# Altium footprint library VCB20.PcbLib: 9 footprints
Each footprint in its own frame and in the unit in brackets; x right, y up, seen from the top. Pads: shape width x height; smd on the part's side, far side on the other; paste and mask are expansions set on the pad; w line width, h text height; cw(c..) or ccw(c..) is an arc to the next point about the centre after c.
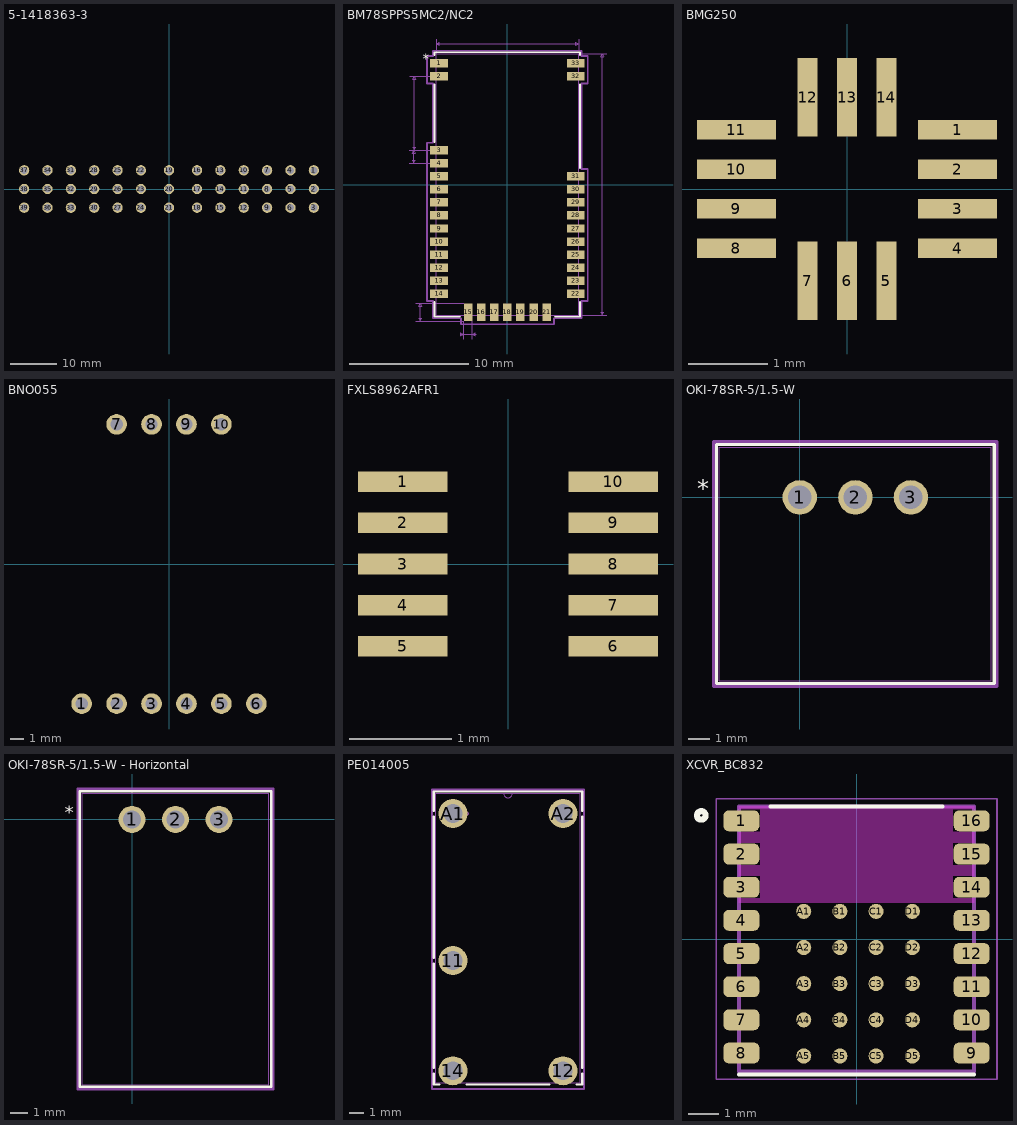
[diagram p0: the footprints below, top view; thin cyan lines are the x and y axes]

## 5-1418363-3 [mm] "Levyseal 90 degree 39 pin header"
pads (39):
  round 2.2 hole 1.5: 1(31,4) 2(31,0) 3(31,-4) 4(26,4) 5(26,0) 6(26,-4) 7(21,4) 8(21,0) 9(21,-4) 10(16,4) 11(16,0) 12(16,-4) 13(11,4) 14(11,0) 15(11,-4) 16(6,4) 17(6,0) 18(6,-4) 19(0,4) 20(0,0) 21(0,-4) 22(-6,4) 23(-6,0) 24(-6,-4) 25(-11,4) 26(-11,0) 27(-11,-4) 28(-16,4) 29(-16,0) 30(-16,-4) 31(-21,4) 32(-21,0) 33(-21,-4) 34(-26,4) 35(-26,0) 36(-26,-4) 37(-31,4) 38(-31,0) 39(-31,-4)
via -51.5,-4 diameter 4 hole 3.5
via 51.5,-4 diameter 4 hole 3.5
via -45,-4 diameter 3.5 hole 3
via 45,-4 diameter 3.5 hole 3
3D body "c-5-1418363-3-c-3d.stp": height 37, standoff -11, extent -66,-47.4 66,10.4

## BM78SPPS5MC2/NC2 [mil]
pads (33):
  rect 59x28 smd: 1(-226.4,401.6) 2(-226.4,358.3) 3(-226.4,114.2) 4(-226.4,70.9) 5(-226.4,27.6) 6(-226.4,-15.7) 7(-226.4,-59) 8(-226.4,-102.3) 9(-226.4,-145.6) 10(-226.4,-188.9) 11(-226.4,-232.2) 12(-226.4,-275.5) 13(-226.4,-318.8) 14(-226.4,-362.1) 22(226.4,-362.1) 23(226.4,-318.8) 24(226.4,-275.5) 25(226.4,-232.2) 26(226.4,-188.9) 27(226.4,-145.6) 28(226.4,-102.3) 29(226.4,-59) 30(226.4,-15.7) 31(226.4,27.6) 32(226.4,358.3) 33(226.4,401.6)
  rect 28x59 smd: 15(-129.9,-423.25) 16(-86.6,-423.25) 17(-43.3,-423.25) 18(0,-423.25) 19(43.3,-423.25) 20(86.6,-423.25) 21(129.9,-423.25)
Top Overlay:
  lines w6: -241,-389.2 -241,-438 -157,-438 ; -241,141.3 -241,331.2 ; -241,428.7 -241,438 241,438 241,428.7 ; 157,-438 241,-438 241,-389.2 ; 241,54.7 241,331.2
  text "*" at -280.9,401.57 h31.25
Mechanical 1:
  lines w1: -236,-433 236,-433 236,433 -236,433 -236,-433
  text "*" at -171.9,401.57 h31.25
Mechanical 16:
  lines w1: -325.33,70.9 -226.4,70.9 ; -325.33,114.2 -226.4,114.2 -324.06,114.2 ; -324.06,358.3 -226.4,358.3 ; -303.02,-452.75 -143.9,-452.75 -143.9,-511.58 ; -303.02,-393.75 -143.9,-393.75 ; -236,433 -236,482.1 ; -155.9,-496.58 -115.9,-496.58 ; -115.9,-511.58 -115.9,-452.75 ; -103.9,-496.58 -143.9,-496.58 ; 236,-433 329.41,-433 ; 236,482.1 236,433 329.41,433 ; -310.33,70.9 -310.33,114.2 ; -310.33,70.9 -315.33,80.9 -305.33,80.9 -310.33,70.9 ; -310.33,114.2 -305.33,104.2 -315.33,104.2 -310.33,114.2 ; -309.06,114.2 -309.06,358.3 ; -309.06,114.2 -314.06,124.2 -304.06,124.2 -309.06,114.2 ; -309.06,358.3 -304.06,348.3 -314.06,348.3 -309.06,358.3 ; -288.02,-452.75 -288.02,-393.75 ; -288.02,-452.75 -293.02,-442.75 -283.02,-442.75 -288.02,-452.75 ; -288.02,-393.75 -283.02,-403.75 -293.02,-403.75 -288.02,-393.75 ; -236,467.1 236,467.1 ; -236,467.1 -226,472.1 -226,462.1 -236,467.1 ; -143.9,-496.58 -153.9,-501.58 -153.9,-491.58 -143.9,-496.58 ; -115.9,-496.58 -105.9,-491.58 -105.9,-501.58 -115.9,-496.58 ; 236,467.1 226,462.1 226,472.1 236,467.1 ; 314.41,-433 314.41,433 ; 314.41,-433 309.41,-423 319.41,-423 314.41,-433 ; 314.41,433 319.41,423 309.41,423 314.41,433
  lines w6: -265.9,-386.1 -265.9,138.2 -246,138.2 -246,334.3 -265.9,334.3 -265.9,425.6 -246,425.6 -246,443 246,443 246,425.6 265.9,425.6 265.9,334.3 246,334.3 246,51.6 265.9,51.6 265.9,-386.1 246,-386.1 246,-443 153.9,-443 153.9,-462.75 -153.9,-462.75 -153.9,-443 -246,-443 -246,-386.1 -265.9,-386.1
  text "0.472in/11.989mm" at 0,487.1 h15.62
  text "0.866in/21.996mm" at 334.41,0 h15.62
  text "0.043in/1.1mm" at -330.33,92.55 h15.62
  text "0.244in/6.2mm" at -329.06,236.25 h15.62
  text "0.059in/1.499mm" at -308.02,-423.25 h15.62
  text "0.028in/0.711mm" at -129.9,-516.58 h15.62

## BMG250 [mm] "Gyroscope, 3axis"
pads (14):
  rect 1x0.25 smd: 1(1.4,0.75) 2(1.4,0.25) 3(1.4,-0.25) 4(1.4,-0.75) 8(-1.4,-0.75) 9(-1.4,-0.25) 10(-1.4,0.25) 11(-1.4,0.75)
  rect 0.25x1 smd: 5(0.5,-1.162) 6(0,-1.162) 7(-0.5,-1.162) 12(-0.5,1.162) 13(0,1.162) 14(0.5,1.162)
3D body: height 0.9, standoff 0, extent -1.5,-1.25 1.5,1.25

## BNO055 [mm] "Adafruit Breakout"
pads (10):
  round 1.5 hole 0.9: 1(-6.35,-10.16) 2(-3.81,-10.16) 3(-1.27,-10.16) 4(1.27,-10.16) 5(3.81,-10.16) 6(6.35,-10.16) 7(-3.81,10.16) 8(-1.27,10.16) 9(1.27,10.16) 10(3.81,10.16)
3D body: height 5.08, standoff 2.54, extent -12.7,-11.43 12.7,11.43

## FXLS8962AFR1 [mm] "Accelerometer"
pads (10):
  rect 0.875x0.2 smd: 1(-1.025,0.8) 2(-1.025,0.4) 3(-1.025,0) 4(-1.025,-0.4) 5(-1.025,-0.8) 6(1.025,-0.8) 7(1.025,-0.4) 8(1.025,0) 9(1.025,0.4) 10(1.025,0.8)
3D body: height 1, standoff 0, extent -1,-1 1,1

## OKI-78SR-5/1.5-W [mil]
pads (3):
  round 62 hole 42 mask-1000: 1(0,0) 2(100,0) 3(200,0)
Top Overlay:
  lines w6: -150,-335 350,-335 350,95 -150,95 -150,-335
  text "*" at -185,0 h31.25
Top Solder:
  region: 0,31.27 -8.09,30.2 -15.63,27.08 -22.11,22.11 -27.08,15.63 -30.2,8.09 -31.27,0 -30.2,-8.09 -27.08,-15.63 -22.11,-22.11 -15.63,-27.08 -8.09,-30.2 0,-31.27 8.09,-30.2 15.63,-27.08 22.11,-22.11 27.08,-15.63 30.2,-8.09 31.27,0 30.2,8.09 27.08,15.63 22.11,22.11 15.63,27.08 8.09,30.2
  region: 100,31.27 91.91,30.2 84.37,27.08 77.89,22.11 72.92,15.63 69.8,8.09 68.73,0 69.8,-8.09 72.92,-15.63 77.89,-22.11 84.37,-27.08 91.91,-30.2 100,-31.27 108.09,-30.2 115.63,-27.08 122.11,-22.11 127.08,-15.63 130.2,-8.09 131.27,0 130.2,8.09 127.08,15.63 122.11,22.11 115.63,27.08 108.09,30.2
  region: 200,31.27 191.91,30.2 184.37,27.08 177.89,22.11 172.92,15.63 169.8,8.09 168.73,0 169.8,-8.09 172.92,-15.63 177.89,-22.11 184.37,-27.08 191.91,-30.2 200,-31.27 208.09,-30.2 215.63,-27.08 222.11,-22.11 227.08,-15.63 230.2,-8.09 231.27,0 230.2,8.09 227.08,15.63 222.11,22.11 215.63,27.08 208.09,30.2
Bottom Solder:
  region: 0,31.27 -8.09,30.2 -15.63,27.08 -22.11,22.11 -27.08,15.63 -30.2,8.09 -31.27,0 -30.2,-8.09 -27.08,-15.63 -22.11,-22.11 -15.63,-27.08 -8.09,-30.2 0,-31.27 8.09,-30.2 15.63,-27.08 22.11,-22.11 27.08,-15.63 30.2,-8.09 31.27,0 30.2,8.09 27.08,15.63 22.11,22.11 15.63,27.08 8.09,30.2
  region: 100,31.27 91.91,30.2 84.37,27.08 77.89,22.11 72.92,15.63 69.8,8.09 68.73,0 69.8,-8.09 72.92,-15.63 77.89,-22.11 84.37,-27.08 91.91,-30.2 100,-31.27 108.09,-30.2 115.63,-27.08 122.11,-22.11 127.08,-15.63 130.2,-8.09 131.27,0 130.2,8.09 127.08,15.63 122.11,22.11 115.63,27.08 108.09,30.2
  region: 200,31.27 191.91,30.2 184.37,27.08 177.89,22.11 172.92,15.63 169.8,8.09 168.73,0 169.8,-8.09 172.92,-15.63 177.89,-22.11 184.37,-27.08 191.91,-30.2 200,-31.27 208.09,-30.2 215.63,-27.08 222.11,-22.11 227.08,-15.63 230.2,-8.09 231.27,0 230.2,8.09 227.08,15.63 222.11,22.11 215.63,27.08 208.09,30.2
Mechanical 1:
  lines w1: -145,-330 345,-330 345,90 -145,90 -145,-330
  text "*" at -135,0 h31.25
Mechanical 16:
  lines w6: -155,-340 -155,100 355,100 355,-340 -155,-340
3D body "OKI-78SR-51_5-W36E-C_MUR.step": height 710, standoff -227.99, extent -145,-330 345,90

## OKI-78SR-5/1.5-W - Horizontal [mil]
pads (3):
  round 62 hole 42 mask-1000: 1(0,0) 2(100,0) 3(200,0)
Top Overlay:
  lines w6: -120,-615 320,-615 320,65 -120,65 -120,-615
  text "*" at -155,0 h31.25
Top Solder:
  region: 0,31.27 -8.09,30.2 -15.63,27.08 -22.11,22.11 -27.08,15.63 -30.2,8.09 -31.27,0 -30.2,-8.09 -27.08,-15.63 -22.11,-22.11 -15.63,-27.08 -8.09,-30.2 0,-31.27 8.09,-30.2 15.63,-27.08 22.11,-22.11 27.08,-15.63 30.2,-8.09 31.27,0 30.2,8.09 27.08,15.63 22.11,22.11 15.63,27.08 8.09,30.2
  region: 100,31.27 91.91,30.2 84.37,27.08 77.89,22.11 72.92,15.63 69.8,8.09 68.73,0 69.8,-8.09 72.92,-15.63 77.89,-22.11 84.37,-27.08 91.91,-30.2 100,-31.27 108.09,-30.2 115.63,-27.08 122.11,-22.11 127.08,-15.63 130.2,-8.09 131.27,0 130.2,8.09 127.08,15.63 122.11,22.11 115.63,27.08 108.09,30.2
  region: 200,31.27 191.91,30.2 184.37,27.08 177.89,22.11 172.92,15.63 169.8,8.09 168.73,0 169.8,-8.09 172.92,-15.63 177.89,-22.11 184.37,-27.08 191.91,-30.2 200,-31.27 208.09,-30.2 215.63,-27.08 222.11,-22.11 227.08,-15.63 230.2,-8.09 231.27,0 230.2,8.09 227.08,15.63 222.11,22.11 215.63,27.08 208.09,30.2
Bottom Solder:
  region: 0,31.27 -8.09,30.2 -15.63,27.08 -22.11,22.11 -27.08,15.63 -30.2,8.09 -31.27,0 -30.2,-8.09 -27.08,-15.63 -22.11,-22.11 -15.63,-27.08 -8.09,-30.2 0,-31.27 8.09,-30.2 15.63,-27.08 22.11,-22.11 27.08,-15.63 30.2,-8.09 31.27,0 30.2,8.09 27.08,15.63 22.11,22.11 15.63,27.08 8.09,30.2
  region: 100,31.27 91.91,30.2 84.37,27.08 77.89,22.11 72.92,15.63 69.8,8.09 68.73,0 69.8,-8.09 72.92,-15.63 77.89,-22.11 84.37,-27.08 91.91,-30.2 100,-31.27 108.09,-30.2 115.63,-27.08 122.11,-22.11 127.08,-15.63 130.2,-8.09 131.27,0 130.2,8.09 127.08,15.63 122.11,22.11 115.63,27.08 108.09,30.2
  region: 200,31.27 191.91,30.2 184.37,27.08 177.89,22.11 172.92,15.63 169.8,8.09 168.73,0 169.8,-8.09 172.92,-15.63 177.89,-22.11 184.37,-27.08 191.91,-30.2 200,-31.27 208.09,-30.2 215.63,-27.08 222.11,-22.11 227.08,-15.63 230.2,-8.09 231.27,0 230.2,8.09 227.08,15.63 222.11,22.11 215.63,27.08 208.09,30.2
Mechanical 1:
  lines w1: -115,-610 315,-610 315,60 -115,60 -115,-610
  text "*" at -105,0 h31.25
Mechanical 16:
  lines w6: -125,-620 -125,70 325,70 325,-620 -125,-620
3D body "OKI-78SR-51_5-W36H-C_MUR.step": height 340, standoff -227.99, extent -115,-615 315,55

## PE014005 [mil] "Relay SPDT"
pads (5):
  round 79 hole 51 mask+0: 11(10438,4045) 12(10738,3745) 14(10438,3745) A1(10438,4445) A2(10738,4445)
Top Overlay:
  lines w6: 10386,3737.08 10386,3708 10400.61,3708 ; 10386,3752.92 10386,4037.08 ; 10386,4052.92 10386,4437.08 ; 10386,4452.92 10386,4505 10790,4505 10790,4452.92 ; 10475.39,3708 10700.61,3708 ; 10775.39,3708 10790,3708 10790,3737.08 ; 10790,3752.92 10790,4437.08
Mechanical 13:
  circle w0: c10477.5,4445 r3
  lines w0: 10576,4500 ccw(c10588,4500) 10600,4500
  lines w1: 10391,3713 10391,4500 10785,4500 10785,3713 10391,3713
Mechanical 15:
  lines w6: 10381,3695.5 10795,3695.5 10795,4510 10381,4510 10381,3695.5
3D body "RELAY5-PE_CO.step": height 394.09, standoff -100, extent 10393,3711.5 10787.02,4498.5
3D body: height 10, standoff 0, extent 10438,4445 10448,4455

## XCVR_BC832 [mm]
pads (36):
  rrect50% 1.19x0.69 smd: 1(-3.82,3.918) 2(-3.82,2.818) 3(-3.82,1.718) 4(-3.82,0.618) 5(-3.82,-0.482) 6(-3.82,-1.582) 7(-3.82,-2.682) 8(-3.82,-3.782) 9(3.82,-3.782) 10(3.82,-2.682) 11(3.82,-1.582) 12(3.82,-0.482) 13(3.82,0.618) 14(3.82,1.718) 15(3.82,2.818) 16(3.82,3.918)
  round 0.5 smd: A1(-1.75,0.919) A2(-1.75,-0.281) A3(-1.75,-1.481) A4(-1.75,-2.681) A5(-1.75,-3.881) B1(-0.55,0.919) B2(-0.55,-0.281) B3(-0.55,-1.481) B4(-0.55,-2.681) B5(-0.55,-3.881) C1(0.65,0.919) C2(0.65,-0.281) C3(0.65,-1.481) C4(0.65,-2.681) C5(0.65,-3.881) D1(1.85,0.919) D2(1.85,-0.281) D3(1.85,-1.481) D4(1.85,-2.681) D5(1.85,-3.881)
Top Overlay:
  circle w0.2: c-5.15,4.1 r0.141
  lines w0.127: -3.9,-4.5 3.9,-4.5 ; -2.85,4.4 2.85,4.4
Keep-Out Layer:
  region: 3.9,4.3 3.2,4.3 3.2,3.55 3.9,3.55 3.9,3.2 3.2,3.2 3.2,2.45 3.9,2.45 3.9,2.1 3.2,2.1 3.2,1.35 3.9,1.35 3.9,1.2 -3.9,1.2 -3.9,1.35 -3.2,1.35 -3.2,2.1 -3.9,2.1 -3.9,2.45 -3.2,2.45 -3.2,3.2 -3.9,3.2 -3.9,3.55 -3.2,3.55 -3.2,4.3 -3.9,4.3 -3.9,4.4 3.9,4.4
  region: 3.9,4.3 3.2,4.3 3.2,3.55 3.9,3.55 3.9,3.2 3.2,3.2 3.2,2.45 3.9,2.45 3.9,2.1 3.2,2.1 3.2,1.35 3.9,1.35 3.9,1.2 -3.9,1.2 -3.9,1.35 -3.2,1.35 -3.2,2.1 -3.9,2.1 -3.9,2.45 -3.2,2.45 -3.2,3.2 -3.9,3.2 -3.9,3.55 -3.2,3.55 -3.2,4.3 -3.9,4.3 -3.9,4.4 3.9,4.4
  region: 3.9,4.3 3.2,4.3 3.2,3.55 3.9,3.55 3.9,3.2 3.2,3.2 3.2,2.45 3.9,2.45 3.9,2.1 3.2,2.1 3.2,1.35 3.9,1.35 3.9,1.2 -3.9,1.2 -3.9,1.35 -3.2,1.35 -3.2,2.1 -3.9,2.1 -3.9,2.45 -3.2,2.45 -3.2,3.2 -3.9,3.2 -3.9,3.55 -3.2,3.55 -3.2,4.3 -3.9,4.3 -3.9,4.4 3.9,4.4
Mechanical 13:
  lines w0.127: -3.9,-4.4 -3.9,4.4 3.9,4.4 3.9,-4.4 -3.9,-4.4
Mechanical 15:
  lines w0.05: -4.66,-4.65 -4.65,4.65 4.66,4.65 4.66,-4.65 -4.66,-4.65